# EAGLE library part AS7341 (library AS7341)
The AS7341 is a spectral sensor. It has 8 channels spanning the visible spectrum, one IR, one clear, and one flicker channel for a total of 11 channels.
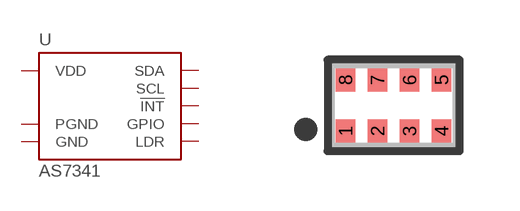
[diagram p0: symbol with the pads of OLGA8; footprint OLGA8]

Designator prefix U

## AS7341OLGA  [OLGA8]
1  VDD  pwr
2  SCL
3  GND  pwr
4  LDR
5  PGND  pwr
6  GPIO
7  !INT!
8  SDA

## Footprint OLGA8 (pad centres in mm)
This OLGA8 footprint is untested! Goes with the spectral sensor, AS7341, from AMS.
smd 0.488 x 0.575: 1 -1.2,-0.638; 2 -0.4,-0.638; 3 0.4,-0.638; 4 1.2,-0.638; 5 1.2,0.638; 6 0.4,0.638; 7 -0.4,0.638; 8 -1.2,0.638